# EAGLE library part XBP15SRV05W-G (library apa102-test-board)
Low Capacitance TVS Diode Array (used for USB) P1->D- (usb1) P2->GND P3->D- (usb2) P4->D+ (usb2) P5->NC P6->D+(usb1) Datasheet <https://www.torexsemi.com/file/xbp15srv05w/XBP15SRV05W.pdf>
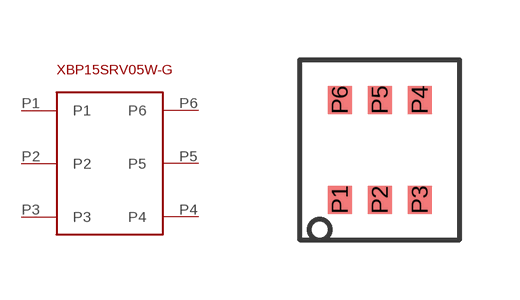
[diagram p11: symbol with the pads of SOT-26P-XBP15SRV05W-G; footprint SOT-26P-XBP15SRV05W-G]

Designator prefix -

## XBP15SRV05W-G (DIGI_KEY_PART_NUMBER: 893-1422-1-ND; MANUFACTURER_PART_NUMBER: XBP15SRV05W-G)  [SOT-26P-XBP15SRV05W-G]
P1  P1
P2  P2
P3  P3
P4  P4
P5  P5
P6  P6

## Footprint SOT-26P-XBP15SRV05W-G (pad centres in mm)
smd 0.6 x 0.7: P1 -1,-1.25; P2 0,-1.25; P3 1,-1.25; P4 1,1.25; P5 0,1.25; P6 -1,1.25